# Altium schematic symbol library DFR0654.SchLib: 1 symbol
Pins are listed as number, name and electrical type; pins without a type are passive.

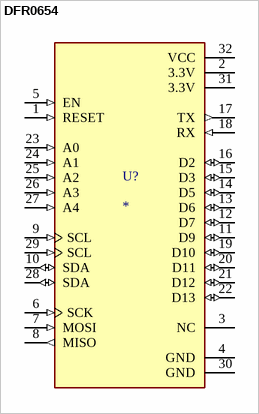
[diagram p0: symbol DFR0654]

## DFR0654
designator U?
ESP32-E series Transceiver; 802.11 b/g/n/d/e/i/k/r (Wi-Fi, WiFi, WLAN), BluetoothÂ® Smart 4.x Low Energy (BLE) Evaluation Board; MP: DFR0654; MF: DFRobot; Availability: In Stock; SnapEDA_Link: https://www.snapeda.com/parts/DFR0654/DFRobot/view-part/?ref=snap; Check_prices: https://www.snapeda.com/parts/DFR0654/DFRobot/view-part/?ref=eda; Package: None; Purchase-URL: https://pricing.snapeda.com/search/part/DFR0654/?ref=eda; Price: None; Value: *
footprint MODULE_DFR0654
pins: 1 RESET (in), 2 3.3V (power), 3 NC, 4 GND (power), 5 EN (in), 6 SCK (in), 7 MOSI (in), 8 MISO (out), 9 SCL (in), 10 SDA (io), 11 D9 (io), 12 D7 (io), 13 D6 (io), 14 D5 (io), 15 D3 (io), 16 D2 (io), 17 TX (out), 18 RX (in), 19 D10 (io), 20 D11 (io), 21 D12 (io), 22 D13 (io), 23 A0 (in), 24 A1 (in), 25 A2 (in), 26 A3 (in), 27 A4 (in), 28 SDA (io), 29 SCL (in), 30 GND (power), 31 3.3V (power), 32 VCC (power)